# Altium schematic symbol library BATTERY.SchLib: 1 symbol
Pins are listed as number, name and electrical type; pins without a type are passive.

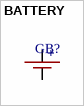
[diagram p0: symbol BATTERY]

## BATTERY
designator GB?
pins: 1, 2
text: +